# Altium schematic symbol library keyboardlib.SchLib: 6 symbols
Pins are listed as number, name and electrical type; pins without a type are passive.

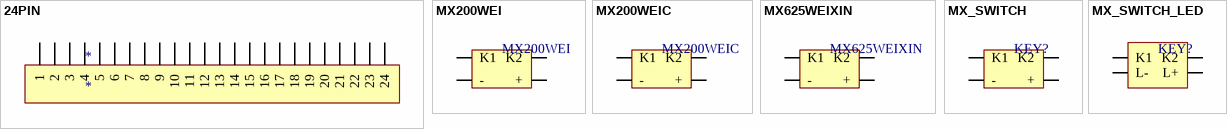
[diagram p0: symbols 24PIN to MX_SWITCH_LED]

## 24PIN
designator *
footprint DIP24
pins: 1, 2, 3, 4, 5, 6, 7, 8, 9, 10, 11, 12, 13, 14, 15, 16, 17, 18, 19, 20, 21, 22, 23, 24

## MX200WEI
designator MX200WEI  (value not drawn)
footprint MX100_WEIXIN200
pins: 0 K1, 1 K2, 2 +, 3 -

## MX200WEIC
designator MX200WEIC  (value not drawn)
footprint MX_WEIXIN200_c
pins: 0 K1, 1 K2, 2 +, 3 -

## MX625WEIXIN
designator MX625WEIXIN  (value not drawn)
footprint MX100_WEIXIN625
pins: 0 K1, 1 K2, 2 +, 3 -

## MX_SWITCH
designator KEY?  (value not drawn)
footprint MX100
footprint MX100_WEIXIN625
footprint MX100_WEIXIN200
footprint MX_WEIXIN200_c
pins: 0 K1, 1 K2, 2 +, 3 -

## MX_SWITCH_LED
designator KEY?  (value not drawn)
footprint MX100_WITH_LED
pins: 0 K1, 1 K2, 2 L+, 3 L-